# Altium schematic symbol library Modules.SchLib: 5 symbols
Pins are listed as number, name and electrical type; pins without a type are passive.

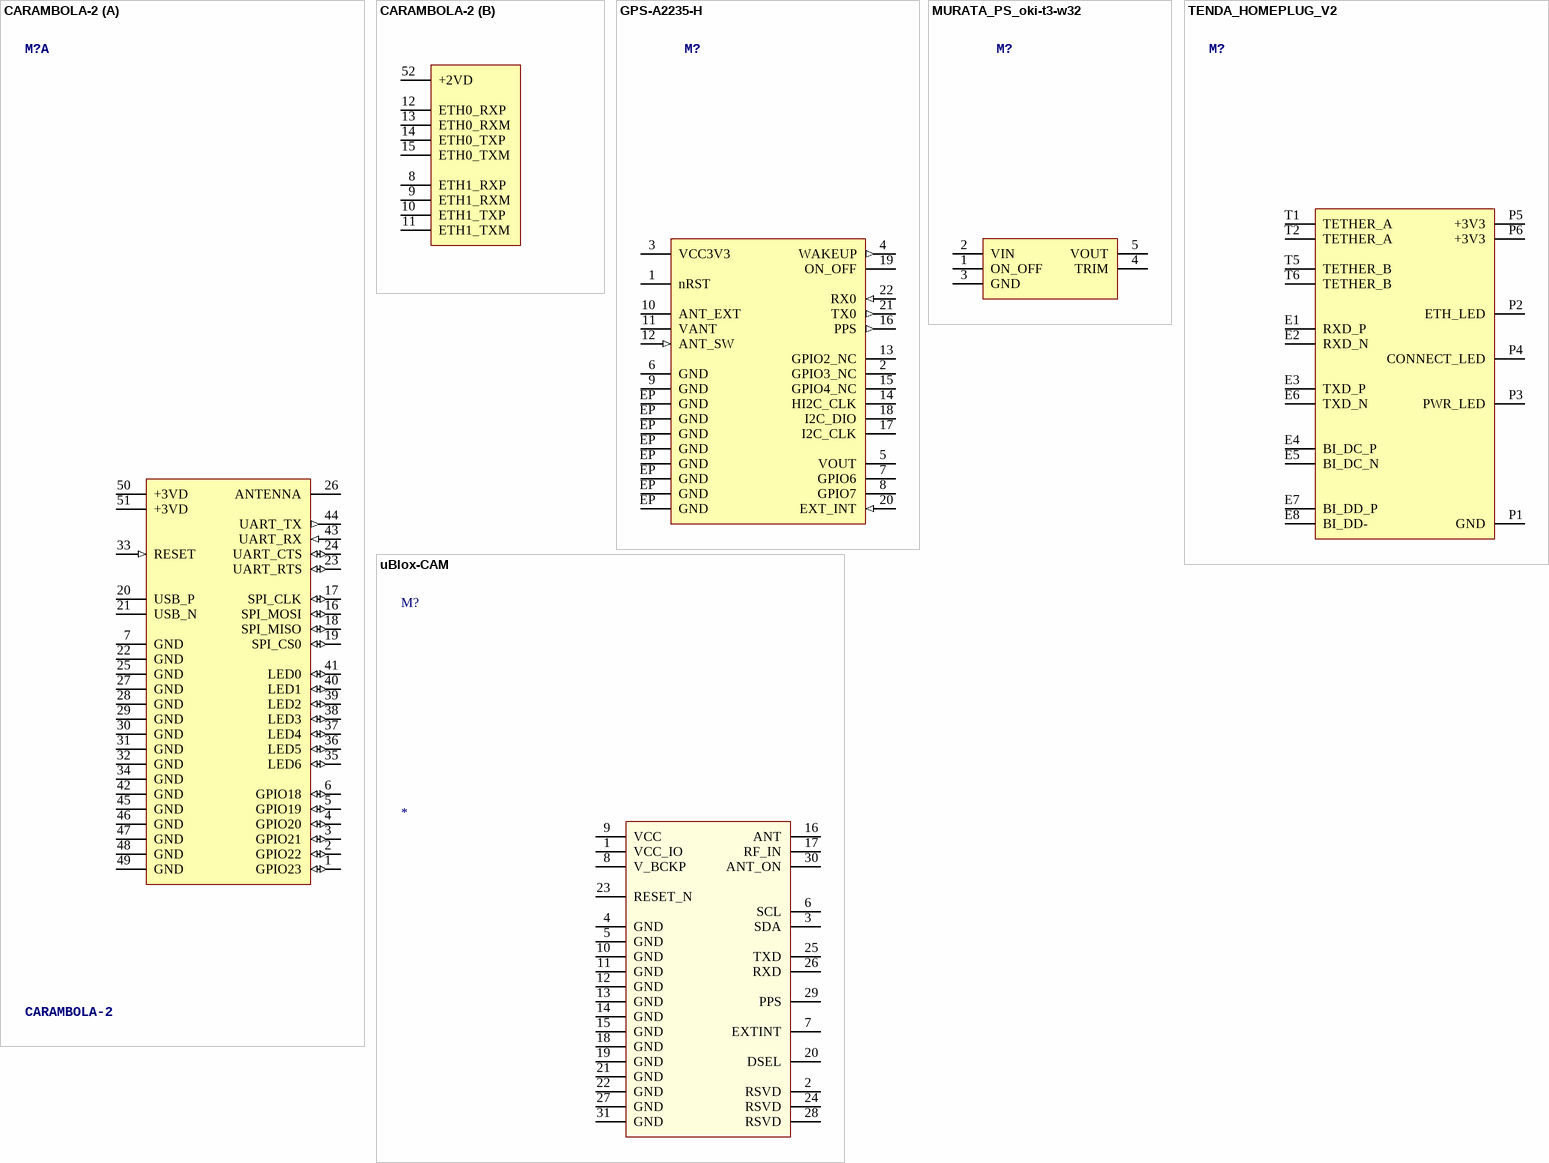
[diagram p0: symbols CARAMBOLA-2 to uBlox-CAM]

## CARAMBOLA-2
designator M?
=description
part A pins: 1 GPIO23 (io), 2 GPIO22 (io), 3 GPIO21 (io), 4 GPIO20 (io), 5 GPIO19 (io), 6 GPIO18 (io), 7 GND (power), 16 SPI_MOSI (io), 17 SPI_CLK (io), 18 SPI_MISO (io), 19 SPI_CS0 (io), 20 USB_P, 21 USB_N, 22 GND (power), 23 UART_RTS (io), 24 UART_CTS (io), 25 GND (power), 26 ANTENNA, 27 GND (power), 28 GND (power), 29 GND (power), 30 GND (power), 31 GND (power), 32 GND (power), 33 RESET (in), 34 GND (power), 35 LED6 (io), 36 LED5 (io), 37 LED4 (io), 38 LED3 (io), 39 LED2 (io), 40 LED1 (io), 41 LED0 (io), 42 GND (power), 43 UART_RX (in), 44 UART_TX (out), 45 GND (power), 46 GND (power), 47 GND (power), 48 GND (power), 49 GND (power), 50 +3VD (power), 51 +3VD (power)
part B pins: 8 ETH1_RXP, 9 ETH1_RXM, 10 ETH1_TXP, 11 ETH1_TXM, 12 ETH0_RXP, 13 ETH0_RXM, 14 ETH0_TXP, 15 ETH0_TXM, 52 +2VD

## GPS-A2235-H
designator M?
=description
pins: 1 nRST, 2 GPIO3_NC, 3 VCC3V3 (power), 4 WAKEUP (out), 5 VOUT (oe), 6 GND (power), 7 GPIO6, 8 GPIO7, 9 GND (power), 10 ANT_EXT, 11 VANT (power), 12 ANT_SW (in), 13 GPIO2_NC, 14 HI2C_CLK, 15 GPIO4_NC, 16 PPS (out), 17 I2C_CLK, 18 I2C_DIO, 19 ON_OFF, 20 EXT_INT (in), 21 TX0 (out), 22 RX0 (in), EP GND (power), EP GND (power), EP GND (power), EP GND (power), EP GND (power), EP GND (power), EP GND (power), EP GND (power)

## MURATA_PS_oki-t3-w32
designator M?
=description
pins: 1 ON_OFF, 2 VIN (power), 3 GND (power), 4 TRIM, 5 VOUT (power)

## TENDA_HOMEPLUG_V2
designator M?
=Description
pins: E1 RXD_P, E2 RXD_N, E3 TXD_P, E4 BI_DC_P, E5 BI_DC_N, E6 TXD_N, E7 BI_DD_P, E8 BI_DD-, P1 GND, P2 ETH_LED, P3 PWR_LED, P4 CONNECT_LED, P5 +3V3, P6 +3V3, T1 TETHER_A, T2 TETHER_A, T5 TETHER_B, T6 TETHER_B

## uBlox-CAM
designator M?
=description
footprint u-Blox-CAM (u-blox CAM GNSS antenna module)
pins: 1 VCC_IO, 2 RSVD, 3 SDA, 4 GND, 5 GND, 6 SCL, 7 EXTINT, 8 V_BCKP, 9 VCC, 10 GND, 11 GND, 12 GND, 13 GND, 14 GND, 15 GND, 16 ANT, 17 RF_IN, 18 GND, 19 GND, 20 DSEL, 21 GND, 22 GND, 23 RESET_N, 24 RSVD, 25 TXD, 26 RXD, 27 GND, 28 RSVD, 29 PPS, 30 ANT_ON, 31 GND